# Altium schematic symbol library Moles_kk.SchLib: 3 symbols
Pins are listed as number, name and electrical type; pins without a type are passive.

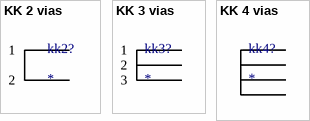
[diagram p0: symbols KK 2 vias to KK 4 vias]

## KK 2 vias
designator kk2?
footprint 2-vias
pins: 1, 2

## KK 3 vias
designator kk3?
footprint 3-vias
pins: 1, 2, 3

## KK 4 vias
designator kk4?  (mechanical)
ComponentLink1Description: Fabricante; ComponentLink1URL: https://www.molex.com/molex/products/family?key=kk_254_rpc_connector_system&channel=products&chanName=family&pageTitle=Introduction&parentKey=kk_interconnect_solutions
footprint 4-vias
pins: p1 1, p2 2, p3 3, p4 4